# EAGLE library part RFD_CHIP (library LITTLEBITS140915)
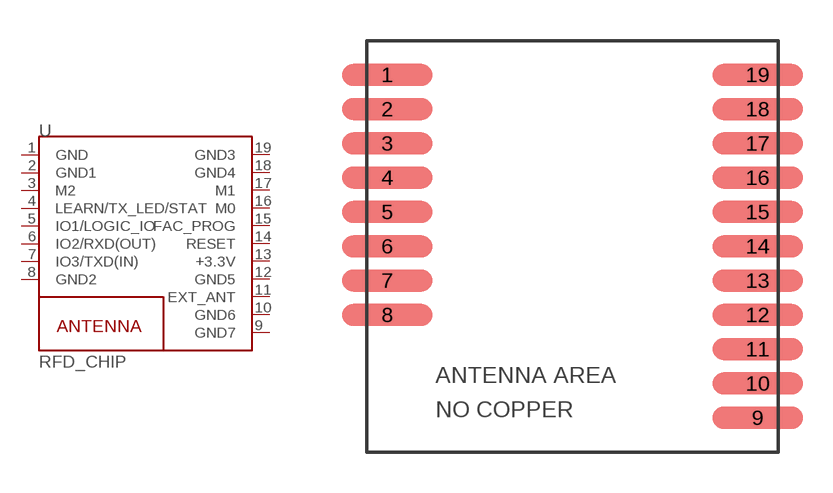
[diagram p12: symbol with the pads of RFD21733; footprint RFD21733]

Designator prefix -

## RFD_CHIP  [RFD21733]
1  GND
2  GND1
3  M2
4  LEARN/TX_LED/STAT
5  IO1/LOGIC_IO
6  IO2/RXD(OUT)
7  IO3/TXD(IN)
8  GND2
9  GND7
10  GND6
11  EXT_ANT
12  GND5
13  +3.3V
14  RESET
15  FAC_PROG
16  M0
17  M1
18  GND4
19  GND3

## Footprint RFD21733 (pad centres in mm)
smd 3.353 x 0.813: 1 -6.858,6.35; 2 -6.858,5.08; 3 -6.858,3.81; 4 -6.858,2.54; 5 -6.858,1.27; 6 -6.858,0; 7 -6.858,-1.27; 8 -6.858,-2.54; 9 6.858,-6.35; 10 6.858,-5.08; 11 6.858,-3.81; 12 6.858,-2.54; 13 6.858,-1.27; 14 6.858,0; 15 6.858,1.27; 16 6.858,2.54; 17 6.858,3.81; 18 6.858,5.08; 19 6.858,6.35